# Altium footprint library testPin.PcbLib: 3 footprints
Each footprint in its own frame and in the unit in brackets; x right, y up, seen from the top. Pads: shape width x height; smd on the part's side, far side on the other; paste and mask are expansions set on the pad; w line width, h text height; cw(c..) or ccw(c..) is an arc to the next point about the centre after c.
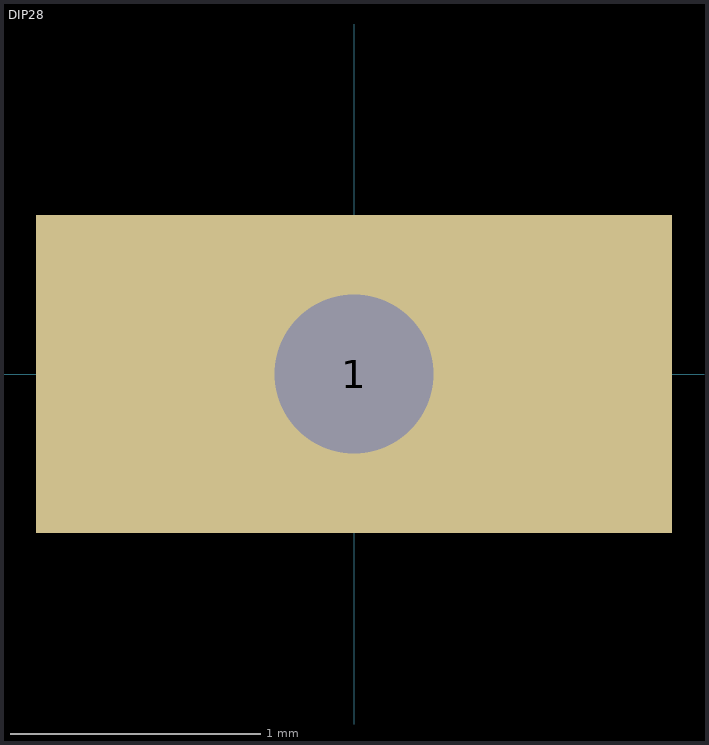
[diagram p0: the footprints below, top view; thin cyan lines are the x and y axes]

## DIP28 [mil]
pads (1):
  rect 100x50 hole 25: 1(0,0)

## PCBComponent_1 [mil]

## PCBComponent_1 - duplicate [mil]